# EAGLE library part SP3222EUCT-L (library Sipex_By_element14_Batch_1)
3.3V, 1000 Kbps RS-232 Transceivers
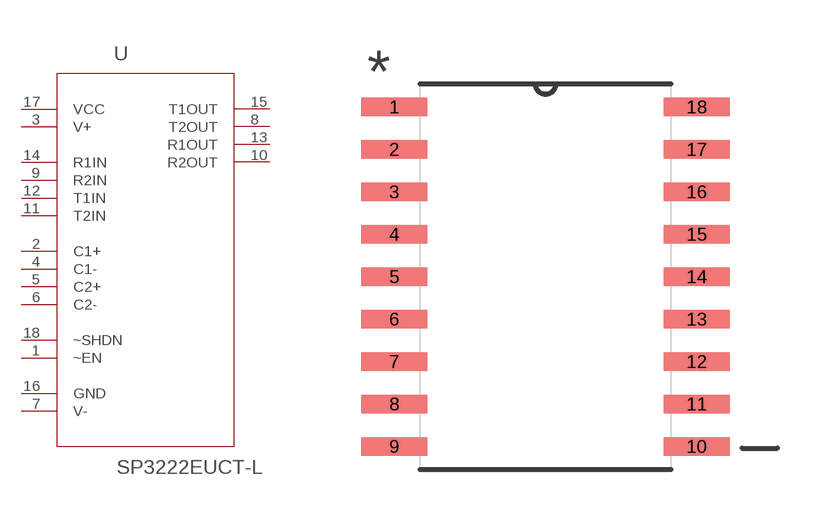
[diagram p2: symbol with the pads of SOIC127P1032X265-18N; footprint SOIC127P1032X265-18N]

Designator prefix U

## SP3222EUCT-L (MPN: SP3222EUCT-L; OC_FARNELL: 1829396; OC_NEWARK: 24R0284; PACKAGE: SOIC-18; SUPPLIER: Sipex Corporation)  [SOIC127P1032X265-18N]
1  ~EN  pas
2  C1+  pas
3  V+  pas
4  C1-  pas
5  C2+  pas
6  C2-  pas
7  V-  pas
8  T2OUT  pas
9  R2IN  pas
10  R2OUT  pas
11  T2IN  pas
12  T1IN  pas
13  R1OUT  pas
14  R1IN  pas
15  T1OUT  pas
16  GND  pas
17  VCC  pas
18  ~SHDN  pas

## Footprint SOIC127P1032X265-18N (pad centres in mm)
smd 1.981 x 0.559: 1 -4.521,5.08; 2 -4.521,3.81; 3 -4.521,2.54; 4 -4.521,1.27; 5 -4.521,0; 6 -4.521,-1.27; 7 -4.521,-2.54; 8 -4.521,-3.81; 9 -4.521,-5.08; 10 4.521,-5.08; 11 4.521,-3.81; 12 4.521,-2.54; 13 4.521,-1.27; 14 4.521,0; 15 4.521,1.27; 16 4.521,2.54; 17 4.521,3.81; 18 4.521,5.08